# Altium schematic symbol library HT7333.SchLib: 1 symbol
Pins are listed as number, name and electrical type; pins without a type are passive.

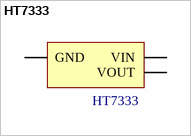
[diagram p0: symbol HT7333]

## HT7333
designator HT7333  (value not drawn)
5V to 3.3V voltage regulator in SOT-89 package
footprint HT7333 (3.3V to 5V voltage regulator in SOT-89 package)
pins: GND, VIN, VOUT